# Altium footprint library SH_1.0_6.PcbLib: 1 footprints
Each footprint in its own frame and in the unit in brackets; x right, y up, seen from the top. Pads: shape width x height; smd on the part's side, far side on the other; paste and mask are expansions set on the pad; w line width, h text height; cw(c..) or ccw(c..) is an arc to the next point about the centre after c.
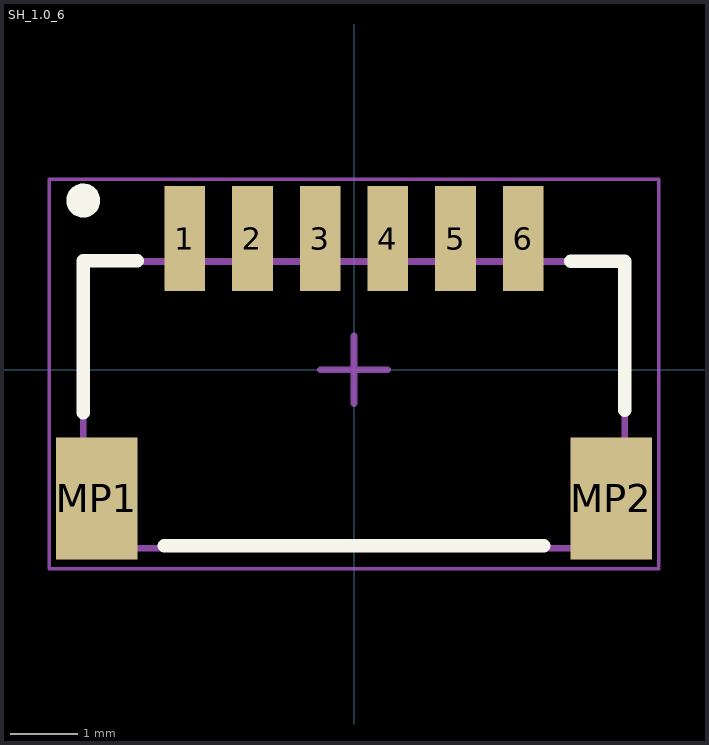
[diagram p0: the footprint, top view; thin cyan lines are the x and y axes]

## SH_1.0_6 [mm]
pads (8):
  rect 0.6x1.55 smd: 1(-2.5,1.938) 2(-1.5,1.938) 3(-0.5,1.938) 4(0.5,1.938) 5(1.5,1.938) 6(2.5,1.938)
  rect 1.2x1.8 smd: MP1(-3.8,-1.9) MP2(3.8,-1.9)
Top Overlay:
  circle w0.25: c-4,2.5 r0.125
  lines w0.2: -4,-0.637 -4,1.613 -3.2,1.613 ; -2.8,-2.6 2.8,-2.6 ; 3.2,1.6 4,1.6 4,-0.6
Mechanical 13:
  lines w0.1: -4,-2.637 -4,1.6 4,1.6 4,-2.637 -4,-2.637
Mechanical 15:
  lines w0.05: -4.5,2.81 -4.5,-2.937 4.5,-2.937 ; -4.5,2.812 4.5,2.812 ; 4.5,-2.9 4.5,2.8
  lines w0.1: -0.5,0 0.5,0 ; 0,-0.5 0,0.5